# Altium schematic symbol library SNESConn.SchLib: 1 symbol
Pins are listed as number, name and electrical type; pins without a type are passive.

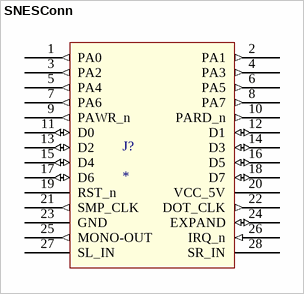
[diagram p0: symbol SNESConn]

## SNESConn
designator J?
footprint SNES-MEC2-CONN (Male connector for the EXT socket on the SNES)
pins: 1 PA0 (out), 2 PA1 (out), 3 PA2 (out), 4 PA3 (out), 5 PA4 (out), 6 PA5 (out), 7 PA6 (out), 8 PA7 (out), 9 PAWR_n (out), 10 PARD_n (out), 11 D0 (io), 12 D1 (io), 13 D2 (io), 14 D3 (io), 15 D4 (io), 16 D5 (io), 17 D6 (io), 18 D7 (io), 19 RST_n, 20 VCC_5V, 21 SMP_CLK (out), 22 DOT_CLK (out), 23 GND, 24 EXPAND (io), 25 MONO-OUT (out), 26 IRQ_n (in), 27 SL_IN, 28 SR_IN